# EAGLE library part B39431B3710U410 (library SON120P300X300X110-6N)
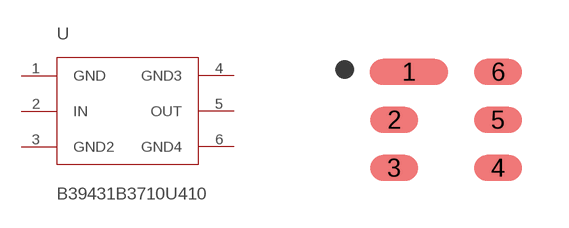
[diagram p0: symbol with the pads of SON120P300X300X110-6N; footprint SON120P300X300X110-6N]

Designator prefix U

## B39431B3710U410  [SON120P300X300X110-6N]
1  GND  pwr
2  IN
3  GND2  pwr
4  GND3  pwr
5  OUT
6  GND4  pwr

## Footprint SON120P300X300X110-6N (pad centres in mm)
smd 1.96 x 0.65: 1 -0.93,1.2
smd 1.2 x 0.65: 2 -1.3,0; 3 -1.3,-1.2; 4 1.3,-1.2; 5 1.3,0; 6 1.3,1.2